# Altium footprint library BR-10.PcbLib: 1 footprints
Each footprint in its own frame and in the unit in brackets; x right, y up, seen from the top. Pads: shape width x height; smd on the part's side, far side on the other; paste and mask are expansions set on the pad; w line width, h text height; cw(c..) or ccw(c..) is an arc to the next point about the centre after c.
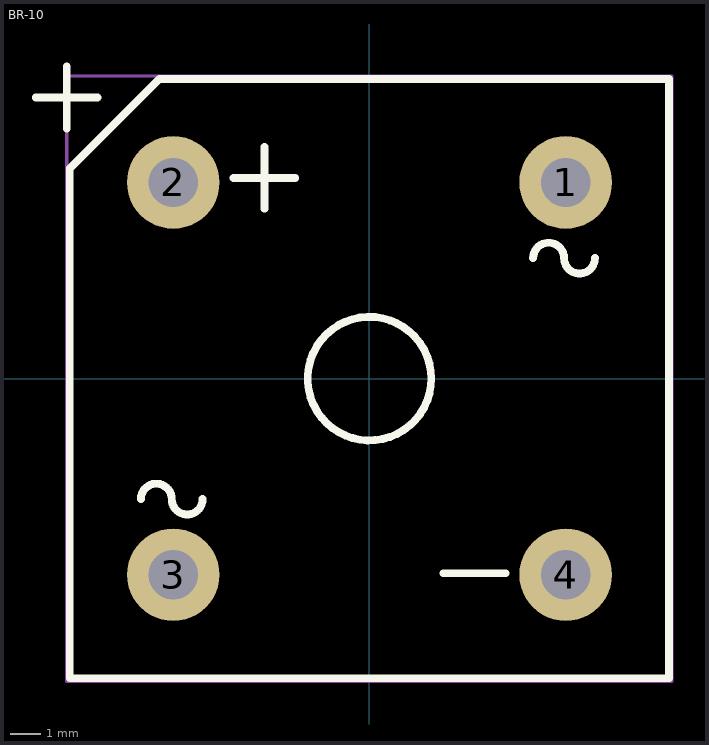
[diagram p0: the footprint, top view; thin cyan lines are the x and y axes]

## BR-10 [mm]
pads (4):
  round 3 hole 1.6: 1(6.35,6.35) 2(-6.35,6.35) 3(-6.35,-6.35) 4(6.35,-6.35)
Top Overlay:
  circle w0.254: c0,0 r2
  lines w0.254: -10.8,9.1 -8.8,9.1 ; -9.8,8.1 -9.8,10.1 ; -7.4,-3.9 cw(c-6.9,-3.9) -6.4,-3.9 ccw(c-5.9,-3.9) -5.4,-3.9 ; -4.4,6.5 -2.4,6.5 ; -3.4,5.5 -3.4,7.5 ; 2.4,-6.3 4.4,-6.3 ; 5.3,3.9 cw(c5.8,3.9) 6.3,3.9 ccw(c6.8,3.9) 7.3,3.9 ; -9.7,-9.7 -9.7,6.8 -6.8,9.7 9.7,9.7 9.7,-9.7 -9.7,-9.7
Mechanical 13:
  lines w0.1: -9.8,-9.8 -9.8,9.8 9.8,9.8 9.8,-9.8 -9.8,-9.8